# Altium footprint library Switch_ICs.PcbLib: 4 footprints
Each footprint in its own frame and in the unit in brackets; x right, y up, seen from the top. Pads: shape width x height; smd on the part's side, far side on the other; paste and mask are expansions set on the pad; w line width, h text height; cw(c..) or ccw(c..) is an arc to the next point about the centre after c.
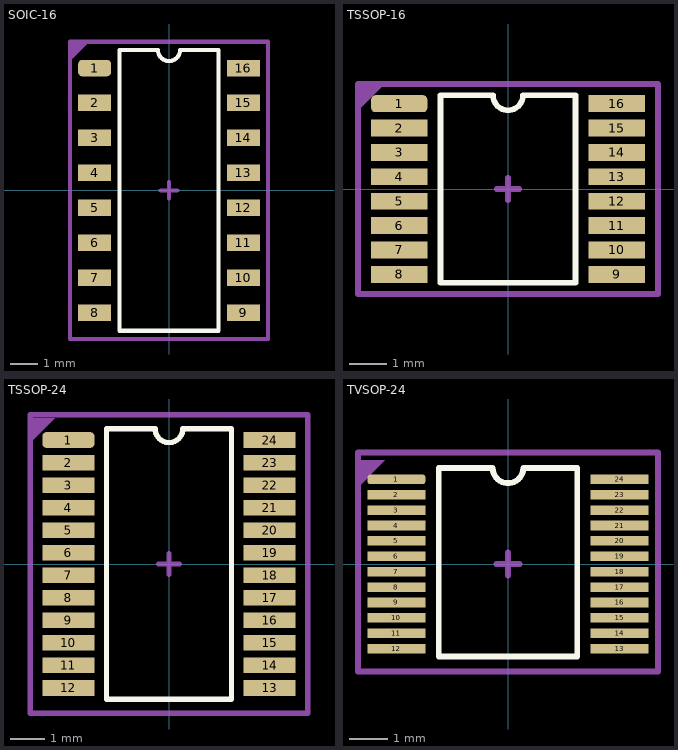
[diagram p0: the footprints below, top view; thin cyan lines are the x and y axes]

## SOIC-16 [mm]
pads (16):
  rrect50% 1.2x0.6 smd: 1(-2.7,4.445)
  rect 1.2x0.6 smd: 2(-2.7,3.175) 3(-2.7,1.905) 4(-2.7,0.635) 5(-2.7,-0.635) 6(-2.7,-1.905) 7(-2.7,-3.175) 8(-2.7,-4.445) 9(2.7,-4.445) 10(2.7,-3.175) 11(2.7,-1.905) 12(2.7,-0.635) 13(2.7,0.635) 14(2.7,1.905) 15(2.7,3.175) 16(2.7,4.445)
Top Overlay:
  lines w0.153: -1.8,-5.1 1.8,-5.1 1.8,5.1 0.4,5.1 cw(c0,5.1) -0.4,5.1 -1.8,5.1 -1.8,-5.1
Top Assembly:
  region: -3.6,5.4 -2.9,5.4 -3.6,4.7
  lines w0.153: -3.6,-5.4 3.6,-5.4 3.6,5.4 -3.6,5.4 -3.6,-5.4
  text "'.Designator'" at -0.333,4.532 h0.8
Top Courtyard (Mech6):
  lines w0.153: -0.3,0 0.3,0 ; 0,-0.3 0,0.3 ; -3.6,-5.4 3.6,-5.4 3.6,5.4 -3.6,5.4 -3.6,-5.4
3D body "so16.step": height 1.7, standoff 0, extent -3,-5.1 3,5.1

## TSSOP-16 [mm]
pads (16):
  rrect50% 1.5x0.45 smd mask+0.05: 1(-2.9,2.275)
  rect 1.5x0.45 smd mask+0.05: 2(-2.9,1.625) 3(-2.9,0.975) 4(-2.9,0.325) 5(-2.9,-0.325) 6(-2.9,-0.975) 7(-2.9,-1.625) 8(-2.9,-2.275) 9(2.9,-2.275) 10(2.9,-1.625) 11(2.9,-0.975) 12(2.9,-0.325) 13(2.9,0.325) 14(2.9,0.975) 15(2.9,1.625) 16(2.9,2.275)
Top Overlay:
  lines w0.153: -1.8,-2.5 -1.8,2.5 -0.4,2.5 ccw(c0,2.5) 0.4,2.5 1.8,2.5 1.8,-2.5 -1.8,-2.5
Top Assembly:
  region: -4,2.8 -3.3,2.8 -4,2.1
  lines w0.153: -4,-2.8 4,-2.8 4,2.8 -4,2.8 -4,-2.8
  text "'.Designator'" at -4.532,-0.333 h0.8
Top Courtyard (Mech6):
  lines w0.153: -0.3,0 0.3,0 ; 0,-0.3 0,0.3 ; -4,-2.8 -4,2.8 4,2.8 4,-2.8 -4,-2.8
3D body "TSSOP-16-1.step": height 1.1, standoff 0, extent -3.2,-2.5 3.2,2.5

## TSSOP-24 [mm]
pads (24):
  rrect50% 1.5x0.45 smd mask+0.05: 1(-2.9,3.575)
  rect 1.5x0.45 smd mask+0.05: 2(-2.9,2.925) 3(-2.9,2.275) 4(-2.9,1.625) 5(-2.9,0.975) 6(-2.9,0.325) 7(-2.9,-0.325) 8(-2.9,-0.975) 9(-2.9,-1.625) 10(-2.9,-2.275) 11(-2.9,-2.925) 12(-2.9,-3.575) 13(2.9,-3.575) 14(2.9,-2.925) 15(2.9,-2.275) 16(2.9,-1.625) 17(2.9,-0.975) 18(2.9,-0.325) 19(2.9,0.325) 20(2.9,0.975) 21(2.9,1.625) 22(2.9,2.275) 23(2.9,2.925) 24(2.9,3.575)
Top Overlay:
  lines w0.153: -1.8,-3.9 1.8,-3.9 1.8,3.9 0.4,3.9 cw(c0,3.9) -0.4,3.9 -1.8,3.9 -1.8,-3.9
Top Assembly:
  region: -4,4.2 -3.3,4.2 -4,3.5
  lines w0.153: -4,-4.3 4,-4.3 4,4.3 -4,4.3 -4,-4.3
  text "'.Designator'" at -4.532,-0.333 h0.8
Top Courtyard (Mech6):
  lines w0.153: -0.3,0 0.3,0 ; 0,-0.3 0,0.3 ; -4,-4.3 4,-4.3 4,4.3 -4,4.3 -4,-4.3
3D body "User Library-TSSOP24_(JEDEC_MO-153).STEP": height 1.2, standoff 0, extent -3.278,-3.95 3.278,3.95

## TVSOP-24 [mm]
pads (24):
  rrect50% 1.5x0.25 smd mask+0.05: 1(-2.9,2.2)
  rect 1.5x0.25 smd mask+0.05: 2(-2.9,1.8) 3(-2.9,1.4) 4(-2.9,1) 5(-2.9,0.6) 6(-2.9,0.2) 7(-2.9,-0.2) 8(-2.9,-0.6) 9(-2.9,-1) 10(-2.9,-1.4) 11(-2.9,-1.8) 12(-2.9,-2.2) 13(2.9,-2.2) 14(2.9,-1.8) 15(2.9,-1.4) 16(2.9,-1) 17(2.9,-0.6) 18(2.9,-0.2) 19(2.9,0.2) 20(2.9,0.6) 21(2.9,1) 22(2.9,1.4) 23(2.9,1.8) 24(2.9,2.2)
Top Overlay:
  lines w0.153: -1.8,-2.4 1.8,-2.4 1.8,2.5 0.4,2.5 cw(c0,2.5) -0.4,2.5 -1.8,2.5 -1.8,-2.4
Top Assembly:
  region: -3.9,2.7 -3.2,2.7 -3.9,2
  lines w0.1: -3.9,-2.8 3.9,-2.8 3.9,2.9 -3.9,2.9 -3.9,-2.8
  text "'.Designator'" at -4.532,-0.333 h0.8
Top Courtyard (Mech6):
  lines w0.153: -0.3,0 0.3,0 ; 0,-0.3 0,0.3 ; -3.9,-2.8 -3.9,2.9 3.9,2.9 3.9,-2.8 -3.9,-2.8
3D body "TVSOP24.stp": height 1.19, standoff -0.02, extent -3.287,-2.448 3.287,2.548